# Altium integrated library Maxim Digital Potentiometers.IntLib: 1045 symbols (part 3 of 42)
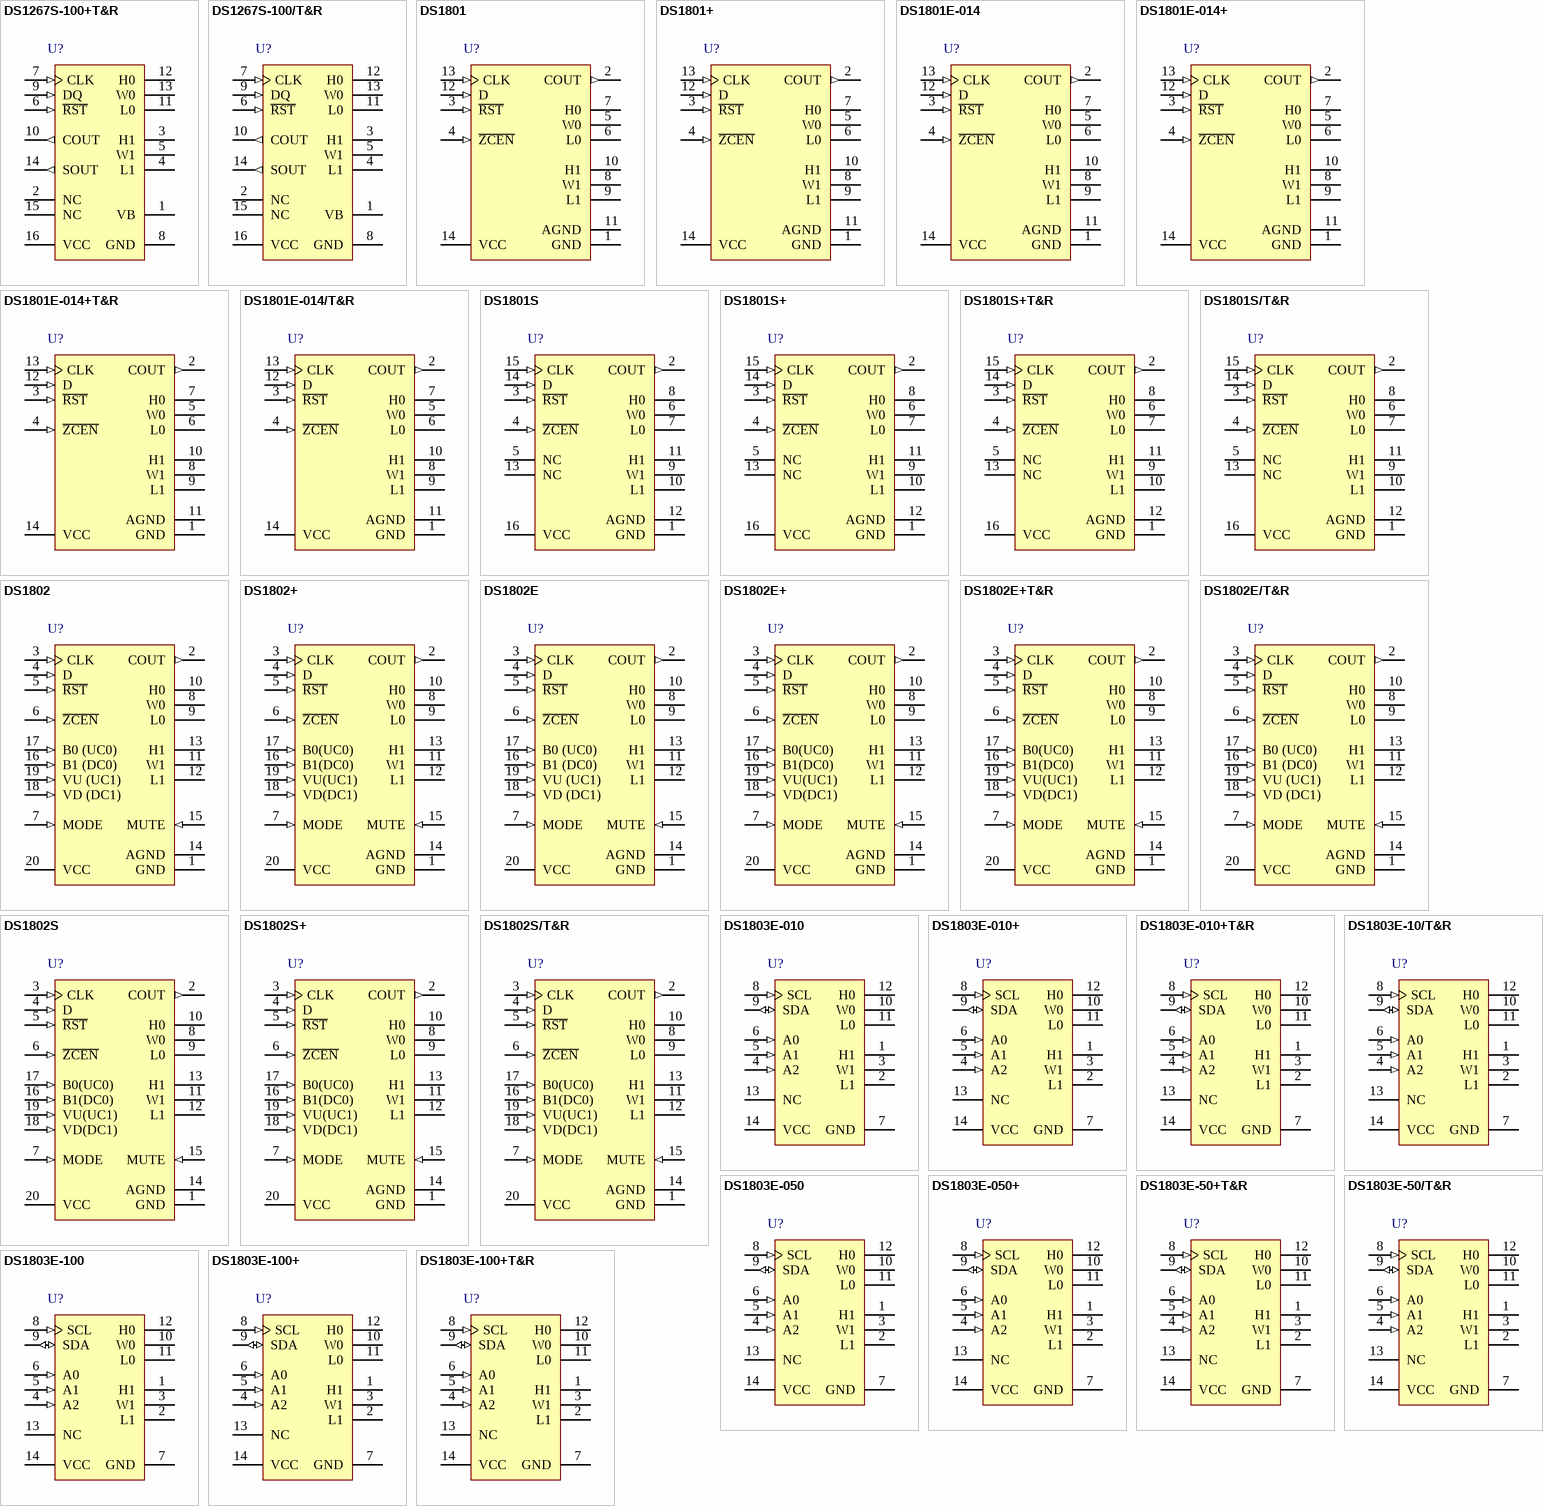
[diagram p31: symbols DS1267S-100+T&R to DS1803E-100+T&R]

## DS1803E-050+
designator U?
Dual Digital Potentiometer with 2-Wire Addressable Control Interface, Volatile, Linear Taper, 256 Steps, -40 to 85 degC, 14-pin TSSOP (U14+1), Pb-Free; PartNumber: DS1803E-050+; DatasheetVersion: Rev. 3; PackageVersion: Rev. L, 07/2010; PackageReference: U14+1; PackageDescription: 14-Pin Thin Shrink Small-Outline Package (U14+1), Body 5 x 4.4 mm, Pitch 0.65 mm; Supplier 1: Digi-Key; Supplier Part Number 1: DS1803E-050+-ND; Supplier 2: Mouser; Supplier Part Number 2: 700-DS1803E-050; Control Interface: 2-Wire Addressable; Mounting Technology: Surface Mount; Code_JEDEC: MO-153; ComponentLink1Description: Manufacturer URL; ComponentLink1URL: http://www.maximintegrated.com/; ComponentLink2Description: Datasheet; ComponentLink2URL: http://datasheets.maximintegrated.com/en/ds/DS1803.pdf; ComponentLink3Description: Package Specification; ComponentLink3URL: http://pdfserv.maximintegrated.com/package_dwgs/21-0066.PDF
footprint MAXM-U14+1_N (SOP, 14-Leads, Body 5x4.4mm, Pitch 0.65mm, IPC Medium Density)
footprint MAXM-U14+1_L (SOP, 14-Leads, Body 5x4.4mm, Pitch 0.65mm, IPC High Density)
footprint MAXM-U14+1_M (SOP, 14-Leads, Body 5x4.4mm, Pitch 0.65mm, IPC Low Density)
pins: 1 H1 "High End of Resistor", 2 L1 "Low End of Resistor", 3 W1 "Wiper terminal of Resistor", 4 A2 (in) "Chip Select Inputs", 5 A1 (in) "Chip Select Inputs", 6 A0 (in) "Chip Select Inputs", 7 GND (power) "Ground", 8 SCL (in) "Serial Clock Input", 9 SDA (io) "Serial Data I/O", 10 W0 "Wiper terminal of Resistor", 11 L0 "Low End of Resistor", 12 H0 "High End of Resistor", 13 NC "No Connection", 14 VCC (power) "3V/5V Power Supply Input"

## DS1803E-50+T&R
designator U?
Dual Digital Potentiometer with 2-Wire Addressable Control Interface, Volatile, Linear Taper, 256 Steps, -40 to 85 degC, 14-pin TSSOP (U14+1), Pb-Free, Tape and Reel; PartNumber: DS1803E-50+T&R; DatasheetVersion: Rev. 3; PackageVersion: Rev. L, 07/2010; PackageReference: U14+1; PackageDescription: 14-Pin Thin Shrink Small-Outline Package (U14+1), Body 5 x 4.4 mm, Pitch 0.65 mm; Supplier 1: Digi-Key; Supplier Part Number 1: DS1803E-50+T&R-ND; Supplier 2: Mouser; Supplier Part Number 2: 700-DS1803E-50T&R; Control Interface: 2-Wire Addressable; Mounting Technology: Surface Mount; Code_JEDEC: MO-153; ComponentLink1Description: Manufacturer URL; ComponentLink1URL: http://www.maximintegrated.com/; ComponentLink2Description: Datasheet; ComponentLink2URL: http://datasheets.maximintegrated.com/en/ds/DS1803.pdf; ComponentLink3Description: Package Specification; ComponentLink3URL: http://pdfserv.maximintegrated.com/package_dwgs/21-0066.PDF
footprint MAXM-U14+1_N (SOP, 14-Leads, Body 5x4.4mm, Pitch 0.65mm, IPC Medium Density)
footprint MAXM-U14+1_L (SOP, 14-Leads, Body 5x4.4mm, Pitch 0.65mm, IPC High Density)
footprint MAXM-U14+1_M (SOP, 14-Leads, Body 5x4.4mm, Pitch 0.65mm, IPC Low Density)
pins: 1 H1 "High End of Resistor", 2 L1 "Low End of Resistor", 3 W1 "Wiper terminal of Resistor", 4 A2 (in) "Chip Select Inputs", 5 A1 (in) "Chip Select Inputs", 6 A0 (in) "Chip Select Inputs", 7 GND (power) "Ground", 8 SCL (in) "Serial Clock Input", 9 SDA (io) "Serial Data I/O", 10 W0 "Wiper terminal of Resistor", 11 L0 "Low End of Resistor", 12 H0 "High End of Resistor", 13 NC "No Connection", 14 VCC (power) "3V/5V Power Supply Input"

## DS1803E-50/T&R
designator U?
Dual Digital Potentiometer with 2-Wire Addressable Control Interface, Volatile, Linear Taper, 256 Steps, -40 to 85 degC, 14-pin TSSOP (U14-1), Tape and Reel; PartNumber: DS1803E-50/T&R; DatasheetVersion: Rev. 3; PackageVersion: Rev. L, 07/2010; PackageReference: U14-1; PackageDescription: 14-Pin Thin Shrink Small-Outline Package (U14-1), Body 5 x 4.4 mm, Pitch 0.65 mm; Supplier 1: Digi-Key; Supplier Part Number 1: DS1803E-50/T&R-ND; Supplier 2: Mouser; Supplier Part Number 2: N/A; Control Interface: 2-Wire Addressable; Mounting Technology: Surface Mount; Code_JEDEC: MO-153; ComponentLink1Description: Manufacturer URL; ComponentLink1URL: http://www.maximintegrated.com/; ComponentLink2Description: Datasheet; ComponentLink2URL: http://datasheets.maximintegrated.com/en/ds/DS1803.pdf; ComponentLink3Description: Package Specification; ComponentLink3URL: http://pdfserv.maximintegrated.com/package_dwgs/21-0066.PDF
footprint MAXM-U14-1_N (SOP, 14-Leads, Body 5x4.4mm, Pitch 0.65mm, IPC Medium Density)
footprint MAXM-U14-1_L (SOP, 14-Leads, Body 5x4.4mm, Pitch 0.65mm, IPC High Density)
footprint MAXM-U14-1_M (SOP, 14-Leads, Body 5x4.4mm, Pitch 0.65mm, IPC Low Density)
pins: 1 H1 "High End of Resistor", 2 L1 "Low End of Resistor", 3 W1 "Wiper terminal of Resistor", 4 A2 (in) "Chip Select Inputs", 5 A1 (in) "Chip Select Inputs", 6 A0 (in) "Chip Select Inputs", 7 GND (power) "Ground", 8 SCL (in) "Serial Clock Input", 9 SDA (io) "Serial Data I/O", 10 W0 "Wiper terminal of Resistor", 11 L0 "Low End of Resistor", 12 H0 "High End of Resistor", 13 NC "No Connection", 14 VCC (power) "3V/5V Power Supply Input"

## DS1803E-100
designator U?
Dual Digital Potentiometer with 2-Wire Addressable Control Interface, Volatile, Linear Taper, 256 Steps, -40 to 85 degC, 14-pin TSSOP (U14-1); PartNumber: DS1803E-100; DatasheetVersion: Rev. 3; PackageVersion: Rev. L, 07/2010; PackageReference: U14-1; PackageDescription: 14-Pin Thin Shrink Small-Outline Package (U14-1), Body 5 x 4.4 mm, Pitch 0.65 mm; Supplier 1: Digi-Key; Supplier Part Number 1: DS1803E-100-ND; Supplier 2: Mouser; Supplier Part Number 2: N/A; Control Interface: 2-Wire Addressable; Mounting Technology: Surface Mount; Code_JEDEC: MO-153; ComponentLink1Description: Manufacturer URL; ComponentLink1URL: http://www.maximintegrated.com/; ComponentLink2Description: Datasheet; ComponentLink2URL: http://datasheets.maximintegrated.com/en/ds/DS1803.pdf; ComponentLink3Description: Package Specification; ComponentLink3URL: http://pdfserv.maximintegrated.com/package_dwgs/21-0066.PDF
footprint MAXM-U14-1_N (SOP, 14-Leads, Body 5x4.4mm, Pitch 0.65mm, IPC Medium Density)
footprint MAXM-U14-1_L (SOP, 14-Leads, Body 5x4.4mm, Pitch 0.65mm, IPC High Density)
footprint MAXM-U14-1_M (SOP, 14-Leads, Body 5x4.4mm, Pitch 0.65mm, IPC Low Density)
pins: 1 H1 "High End of Resistor", 2 L1 "Low End of Resistor", 3 W1 "Wiper terminal of Resistor", 4 A2 (in) "Chip Select Inputs", 5 A1 (in) "Chip Select Inputs", 6 A0 (in) "Chip Select Inputs", 7 GND (power) "Ground", 8 SCL (in) "Serial Clock Input", 9 SDA (io) "Serial Data I/O", 10 W0 "Wiper terminal of Resistor", 11 L0 "Low End of Resistor", 12 H0 "High End of Resistor", 13 NC "No Connection", 14 VCC (power) "3V/5V Power Supply Input"

## DS1803E-100+
designator U?
Dual Digital Potentiometer with 2-Wire Addressable Control Interface, Volatile, Linear Taper, 256 Steps, -40 to 85 degC, 14-pin TSSOP (U14+1), Pb-Free; PartNumber: DS1803E-100+; DatasheetVersion: Rev. 3; PackageVersion: Rev. L, 07/2010; PackageReference: U14+1; PackageDescription: 14-Pin Thin Shrink Small-Outline Package (U14+1), Body 5 x 4.4 mm, Pitch 0.65 mm; Supplier 1: Digi-Key; Supplier Part Number 1: DS1803E-100+-ND; Supplier 2: Mouser; Supplier Part Number 2: 700-DS1803E-100; Control Interface: 2-Wire Addressable; Mounting Technology: Surface Mount; Code_JEDEC: MO-153; ComponentLink1Description: Manufacturer URL; ComponentLink1URL: http://www.maximintegrated.com/; ComponentLink2Description: Datasheet; ComponentLink2URL: http://datasheets.maximintegrated.com/en/ds/DS1803.pdf; ComponentLink3Description: Package Specification; ComponentLink3URL: http://pdfserv.maximintegrated.com/package_dwgs/21-0066.PDF
footprint MAXM-U14+1_N (SOP, 14-Leads, Body 5x4.4mm, Pitch 0.65mm, IPC Medium Density)
footprint MAXM-U14+1_L (SOP, 14-Leads, Body 5x4.4mm, Pitch 0.65mm, IPC High Density)
footprint MAXM-U14+1_M (SOP, 14-Leads, Body 5x4.4mm, Pitch 0.65mm, IPC Low Density)
pins: 1 H1 "High End of Resistor", 2 L1 "Low End of Resistor", 3 W1 "Wiper terminal of Resistor", 4 A2 (in) "Chip Select Inputs", 5 A1 (in) "Chip Select Inputs", 6 A0 (in) "Chip Select Inputs", 7 GND (power) "Ground", 8 SCL (in) "Serial Clock Input", 9 SDA (io) "Serial Data I/O", 10 W0 "Wiper terminal of Resistor", 11 L0 "Low End of Resistor", 12 H0 "High End of Resistor", 13 NC "No Connection", 14 VCC (power) "3V/5V Power Supply Input"

## DS1803E-100+T&R
designator U?
Dual Digital Potentiometer with 2-Wire Addressable Control Interface, Volatile, Linear Taper, 256 Steps, -40 to 85 degC, 14-pin TSSOP (U14+1), Pb-Free, Tape and Reel; PartNumber: DS1803E-100+T&R; DatasheetVersion: Rev. 3; PackageVersion: Rev. L, 07/2010; PackageReference: U14+1; PackageDescription: 14-Pin Thin Shrink Small-Outline Package (U14+1), Body 5 x 4.4 mm, Pitch 0.65 mm; Supplier 1: Digi-Key; Supplier Part Number 1: DS1803E-100+T&R-ND; Supplier 2: Mouser; Supplier Part Number 2: 700-DS1803E-100T&R; Control Interface: 2-Wire Addressable; Mounting Technology: Surface Mount; Code_JEDEC: MO-153; ComponentLink1Description: Manufacturer URL; ComponentLink1URL: http://www.maximintegrated.com/; ComponentLink2Description: Datasheet; ComponentLink2URL: http://datasheets.maximintegrated.com/en/ds/DS1803.pdf; ComponentLink3Description: Package Specification; ComponentLink3URL: http://pdfserv.maximintegrated.com/package_dwgs/21-0066.PDF
footprint MAXM-U14+1_N (SOP, 14-Leads, Body 5x4.4mm, Pitch 0.65mm, IPC Medium Density)
footprint MAXM-U14+1_L (SOP, 14-Leads, Body 5x4.4mm, Pitch 0.65mm, IPC High Density)
footprint MAXM-U14+1_M (SOP, 14-Leads, Body 5x4.4mm, Pitch 0.65mm, IPC Low Density)
pins: 1 H1 "High End of Resistor", 2 L1 "Low End of Resistor", 3 W1 "Wiper terminal of Resistor", 4 A2 (in) "Chip Select Inputs", 5 A1 (in) "Chip Select Inputs", 6 A0 (in) "Chip Select Inputs", 7 GND (power) "Ground", 8 SCL (in) "Serial Clock Input", 9 SDA (io) "Serial Data I/O", 10 W0 "Wiper terminal of Resistor", 11 L0 "Low End of Resistor", 12 H0 "High End of Resistor", 13 NC "No Connection", 14 VCC (power) "3V/5V Power Supply Input"

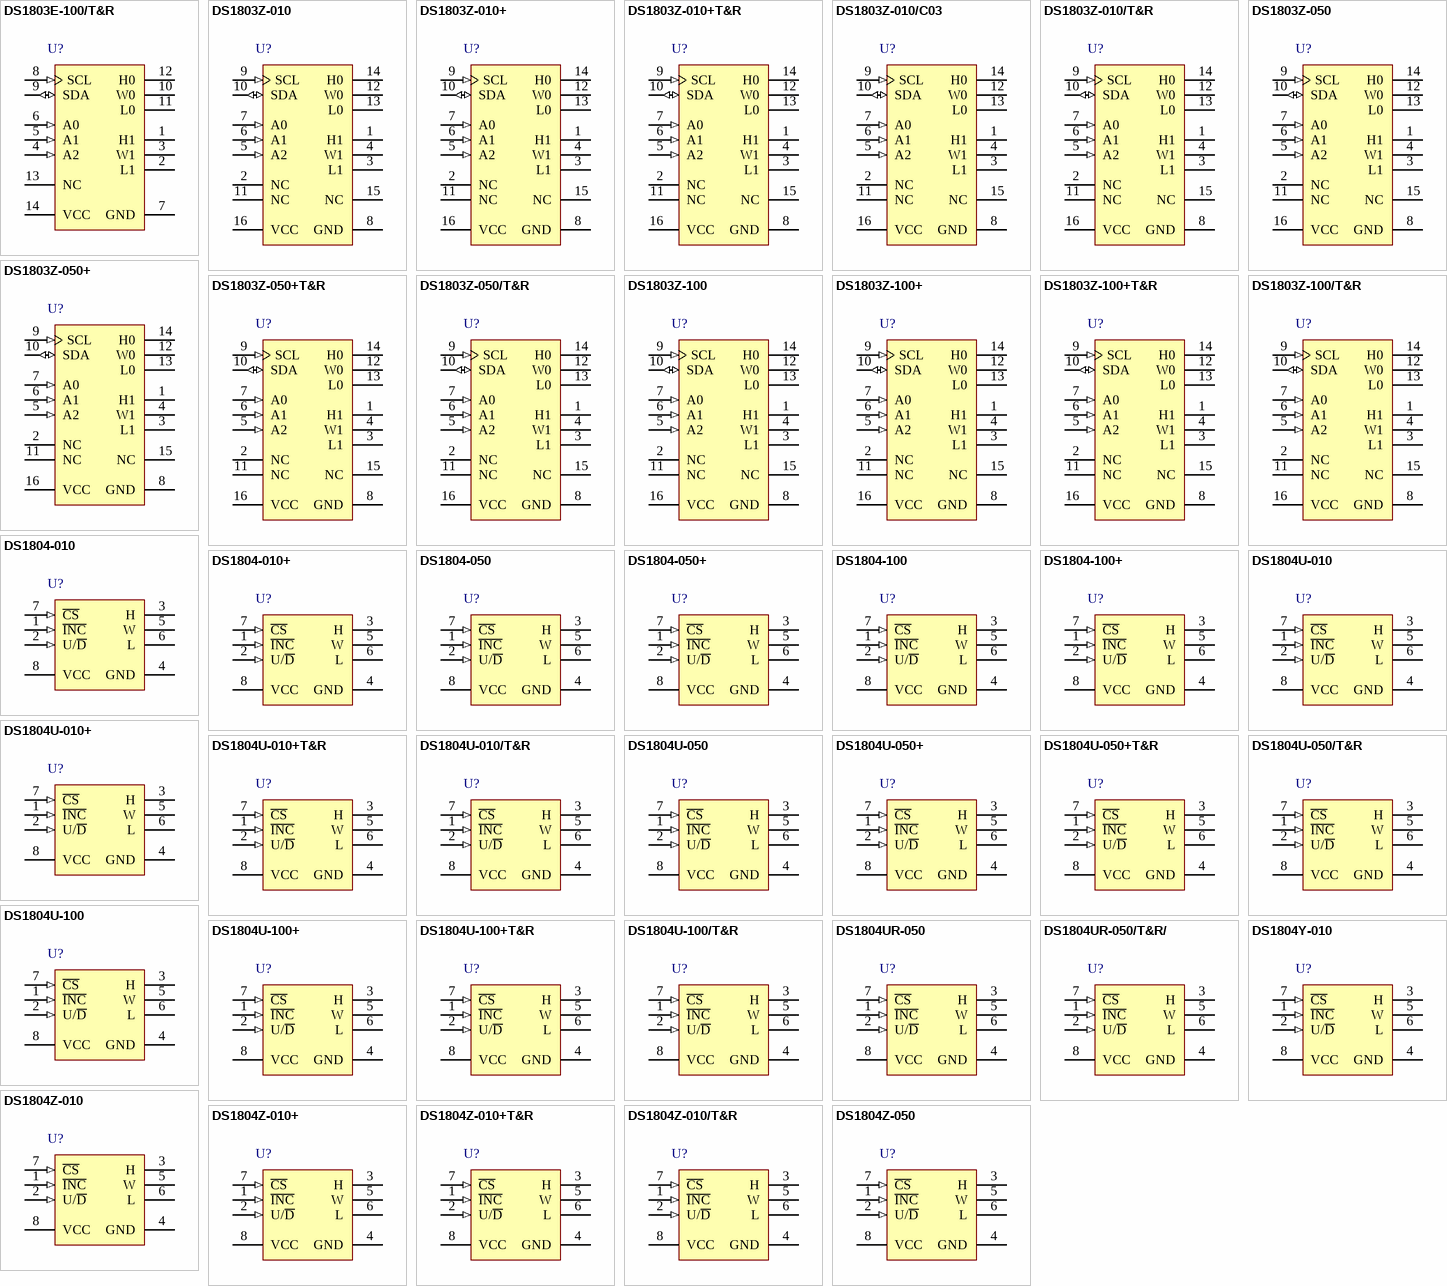
[diagram p2: symbols DS1803E-100/T&R to DS1804Z-050]

## DS1803E-100/T&R
designator U?
Dual Digital Potentiometer with 2-Wire Addressable Control Interface, Volatile, Linear Taper, 256 Steps, -40 to 85 degC, 14-pin TSSOP (U14-1), Tape and Reel; PartNumber: DS1803E-100/T&R; DatasheetVersion: Rev. 3; PackageVersion: Rev. L, 07/2010; PackageReference: U14-1; PackageDescription: 14-Pin Thin Shrink Small-Outline Package (U14-1), Body 5 x 4.4 mm, Pitch 0.65 mm; Supplier 1: Digi-Key; Supplier Part Number 1: DS1803E-100/T&R-ND; Supplier 2: Mouser; Supplier Part Number 2: N/A; Control Interface: 2-Wire Addressable; Mounting Technology: Surface Mount; Code_JEDEC: MO-153; ComponentLink1Description: Manufacturer URL; ComponentLink1URL: http://www.maximintegrated.com/; ComponentLink2Description: Datasheet; ComponentLink2URL: http://datasheets.maximintegrated.com/en/ds/DS1803.pdf; ComponentLink3Description: Package Specification; ComponentLink3URL: http://pdfserv.maximintegrated.com/package_dwgs/21-0066.PDF
footprint MAXM-U14-1_N (SOP, 14-Leads, Body 5x4.4mm, Pitch 0.65mm, IPC Medium Density)
footprint MAXM-U14-1_L (SOP, 14-Leads, Body 5x4.4mm, Pitch 0.65mm, IPC High Density)
footprint MAXM-U14-1_M (SOP, 14-Leads, Body 5x4.4mm, Pitch 0.65mm, IPC Low Density)
pins: 1 H1 "High End of Resistor", 2 L1 "Low End of Resistor", 3 W1 "Wiper terminal of Resistor", 4 A2 (in) "Chip Select Inputs", 5 A1 (in) "Chip Select Inputs", 6 A0 (in) "Chip Select Inputs", 7 GND (power) "Ground", 8 SCL (in) "Serial Clock Input", 9 SDA (io) "Serial Data I/O", 10 W0 "Wiper terminal of Resistor", 11 L0 "Low End of Resistor", 12 H0 "High End of Resistor", 13 NC "No Connection", 14 VCC (power) "3V/5V Power Supply Input"

## DS1803Z-010
designator U?
Dual Digital Potentiometer with 2-Wire Addressable Control Interface, Volatile, Linear Taper, 256 Steps, -40 to 85 degC, 16-pin SOIC (S16-1); PartNumber: DS1803Z-010; DatasheetVersion: Rev. 3; PackageVersion: Rev. D, 10/2012; PackageReference: S16-1; PackageDescription: 16-Pin Small-Outline IC, Narrow (0.15in) (S16-1), Body 9.9 x 3.9 mm, Pitch 1.27 mm; Supplier 1: Digi-Key; Supplier Part Number 1: DS1803Z-010-ND; Supplier 2: Mouser; Supplier Part Number 2: N/A; Control Interface: 2-Wire Addressable; Mounting Technology: Surface Mount; Code_JEDEC: MS012; ComponentLink1Description: Manufacturer URL; ComponentLink1URL: http://www.maximintegrated.com/; ComponentLink2Description: Datasheet; ComponentLink2URL: http://datasheets.maximintegrated.com/en/ds/DS1803.pdf; ComponentLink3Description: Package Specification; ComponentLink3URL: http://pdfserv.maximintegrated.com/package_dwgs/21-0041.PDF
footprint MAXM-S16-1_N (SOIC, 16-Leads, Body 9.9x3.9mm, Pitch 1.27mm, IPC Medium Density)
footprint MAXM-S16-1_L (SOIC, 16-Leads, Body 9.9x3.9mm, Pitch 1.27mm, IPC High Density)
footprint MAXM-S16-1_M (SOIC, 16-Leads, Body 9.9x3.9mm, Pitch 1.27mm, IPC Low Density)
pins: 1 H1 "High End of Resistor", 2 NC "No Connection", 3 L1 "Low End of Resistor", 4 W1 "Wiper terminal of Resistor", 5 A2 (in) "Chip Select Inputs", 6 A1 (in) "Chip Select Inputs", 7 A0 (in) "Chip Select Inputs", 8 GND (power) "Ground", 9 SCL (in) "Serial Clock Input", 10 SDA (io) "Serial Data I/O", 11 NC "No Connection", 12 W0 "Wiper terminal of Resistor", 13 L0 "Low End of Resistor", 14 H0 "High End of Resistor", 15 NC "No Connection", 16 VCC (power) "3V/5V Power Supply Input"

## DS1803Z-010+
designator U?
Dual Digital Potentiometer with 2-Wire Addressable Control Interface, Volatile, Linear Taper, 256 Steps, -40 to 85 degC, 16-pin SOIC (S16+1), Pb-Free; PartNumber: DS1803Z-010+; DatasheetVersion: Rev. 3; PackageVersion: Rev. D, 10/2012; PackageReference: S16+1; PackageDescription: 16-Pin Small-Outline IC, Narrow (0.15in) (S16-1), Body 9.9 x 3.9 mm, Pitch 1.27 mm; Supplier 1: Digi-Key; Supplier Part Number 1: DS1803Z-010+-ND; Supplier 2: Farnell; Supplier Part Number 2: 9725288; Supplier 3: Newark; Supplier Part Number 3: 10J9181; Supplier 4: Mouser; Supplier Part Number 4: 700-DS1803Z-010; Control Interface: 2-Wire Addressable; Mounting Technology: Surface Mount; Code_JEDEC: MS012; ComponentLink1Description: Manufacturer URL; ComponentLink1URL: http://www.maximintegrated.com/; ComponentLink2Description: Datasheet; ComponentLink2URL: http://datasheets.maximintegrated.com/en/ds/DS1803.pdf; ComponentLink3Description: Package Specification; ComponentLink3URL: http://pdfserv.maximintegrated.com/package_dwgs/21-0041.PDF
footprint MAXM-S16+1_N (SOIC, 16-Leads, Body 9.9x3.9mm, Pitch 1.27mm, IPC Medium Density)
footprint MAXM-S16+1_L (SOIC, 16-Leads, Body 9.9x3.9mm, Pitch 1.27mm, IPC High Density)
footprint MAXM-S16+1_M (SOIC, 16-Leads, Body 9.9x3.9mm, Pitch 1.27mm, IPC Low Density)
pins: 1 H1 "High End of Resistor", 2 NC "No Connection", 3 L1 "Low End of Resistor", 4 W1 "Wiper terminal of Resistor", 5 A2 (in) "Chip Select Inputs", 6 A1 (in) "Chip Select Inputs", 7 A0 (in) "Chip Select Inputs", 8 GND (power) "Ground", 9 SCL (in) "Serial Clock Input", 10 SDA (io) "Serial Data I/O", 11 NC "No Connection", 12 W0 "Wiper terminal of Resistor", 13 L0 "Low End of Resistor", 14 H0 "High End of Resistor", 15 NC "No Connection", 16 VCC (power) "3V/5V Power Supply Input"

## DS1803Z-010+T&R
designator U?
Dual Digital Potentiometer with 2-Wire Addressable Control Interface, Volatile, Linear Taper, 256 Steps, -40 to 85 degC, 16-pin SOIC (S16+1), Pb-Free, Tape and Reel; PartNumber: DS1803Z-010+T&R; DatasheetVersion: Rev. 3; PackageVersion: Rev. D, 10/2012; PackageReference: S16+1; PackageDescription: 16-Pin Small-Outline IC, Narrow (0.15in) (S16-1), Body 9.9 x 3.9 mm, Pitch 1.27 mm; Supplier 1: Digi-Key; Supplier Part Number 1: DS1803Z-010+T&R-ND; Supplier 2: Mouser; Supplier Part Number 2: 700-DS1803Z-010T&R; Control Interface: 2-Wire Addressable; Mounting Technology: Surface Mount; Code_JEDEC: MS012; ComponentLink1Description: Manufacturer URL; ComponentLink1URL: http://www.maximintegrated.com/; ComponentLink2Description: Datasheet; ComponentLink2URL: http://datasheets.maximintegrated.com/en/ds/DS1803.pdf; ComponentLink3Description: Package Specification; ComponentLink3URL: http://pdfserv.maximintegrated.com/package_dwgs/21-0041.PDF
footprint MAXM-S16+1_N (SOIC, 16-Leads, Body 9.9x3.9mm, Pitch 1.27mm, IPC Medium Density)
footprint MAXM-S16+1_L (SOIC, 16-Leads, Body 9.9x3.9mm, Pitch 1.27mm, IPC High Density)
footprint MAXM-S16+1_M (SOIC, 16-Leads, Body 9.9x3.9mm, Pitch 1.27mm, IPC Low Density)
pins: 1 H1 "High End of Resistor", 2 NC "No Connection", 3 L1 "Low End of Resistor", 4 W1 "Wiper terminal of Resistor", 5 A2 (in) "Chip Select Inputs", 6 A1 (in) "Chip Select Inputs", 7 A0 (in) "Chip Select Inputs", 8 GND (power) "Ground", 9 SCL (in) "Serial Clock Input", 10 SDA (io) "Serial Data I/O", 11 NC "No Connection", 12 W0 "Wiper terminal of Resistor", 13 L0 "Low End of Resistor", 14 H0 "High End of Resistor", 15 NC "No Connection", 16 VCC (power) "3V/5V Power Supply Input"

## DS1803Z-010/C03
designator U?
Dual Digital Potentiometer with 2-Wire Addressable Control Interface, Volatile, Linear Taper, 256 Steps, -40 to 85 degC, 16-pin SOIC (S16-1); PartNumber: DS1803Z-010/C03; DatasheetVersion: Rev. 3; PackageVersion: Rev. D, 10/2012; PackageReference: S16-1; PackageDescription: 16-Pin Small-Outline IC, Narrow (0.15in) (S16-1), Body 9.9 x 3.9 mm, Pitch 1.27 mm; Supplier 1: Mouser; Supplier Part Number 1: N/A; Control Interface: 2-Wire Addressable; Mounting Technology: Surface Mount; Code_JEDEC: MS012; ComponentLink1Description: Manufacturer URL; ComponentLink1URL: http://www.maximintegrated.com/; ComponentLink2Description: Datasheet; ComponentLink2URL: http://datasheets.maximintegrated.com/en/ds/DS1803.pdf; ComponentLink3Description: Package Specification; ComponentLink3URL: http://pdfserv.maximintegrated.com/package_dwgs/21-0041.PDF
footprint MAXM-S16-1_N (SOIC, 16-Leads, Body 9.9x3.9mm, Pitch 1.27mm, IPC Medium Density)
footprint MAXM-S16-1_L (SOIC, 16-Leads, Body 9.9x3.9mm, Pitch 1.27mm, IPC High Density)
footprint MAXM-S16-1_M (SOIC, 16-Leads, Body 9.9x3.9mm, Pitch 1.27mm, IPC Low Density)
pins: 1 H1 "High End of Resistor", 2 NC "No Connection", 3 L1 "Low End of Resistor", 4 W1 "Wiper terminal of Resistor", 5 A2 (in) "Chip Select Inputs", 6 A1 (in) "Chip Select Inputs", 7 A0 (in) "Chip Select Inputs", 8 GND (power) "Ground", 9 SCL (in) "Serial Clock Input", 10 SDA (io) "Serial Data I/O", 11 NC "No Connection", 12 W0 "Wiper terminal of Resistor", 13 L0 "Low End of Resistor", 14 H0 "High End of Resistor", 15 NC "No Connection", 16 VCC (power) "3V/5V Power Supply Input"

## DS1803Z-010/T&R
designator U?
Dual Digital Potentiometer with 2-Wire Addressable Control Interface, Volatile, Linear Taper, 256 Steps, -40 to 85 degC, 16-pin SOIC (S16-1), Tape and Reel; PartNumber: DS1803Z-010/T&R; DatasheetVersion: Rev. 3; PackageVersion: Rev. D, 10/2012; PackageReference: S16-1; PackageDescription: 16-Pin Small-Outline IC, Narrow (0.15in) (S16-1), Body 9.9 x 3.9 mm, Pitch 1.27 mm; Supplier 1: Digi-Key; Supplier Part Number 1: DS1803Z-010/T&R-ND; Supplier 2: Mouser; Supplier Part Number 2: N/A; Control Interface: 2-Wire Addressable; Mounting Technology: Surface Mount; Code_JEDEC: MS012; ComponentLink1Description: Manufacturer URL; ComponentLink1URL: http://www.maximintegrated.com/; ComponentLink2Description: Datasheet; ComponentLink2URL: http://datasheets.maximintegrated.com/en/ds/DS1803.pdf; ComponentLink3Description: Package Specification; ComponentLink3URL: http://pdfserv.maximintegrated.com/package_dwgs/21-0041.PDF
footprint MAXM-S16-1_N (SOIC, 16-Leads, Body 9.9x3.9mm, Pitch 1.27mm, IPC Medium Density)
footprint MAXM-S16-1_L (SOIC, 16-Leads, Body 9.9x3.9mm, Pitch 1.27mm, IPC High Density)
footprint MAXM-S16-1_M (SOIC, 16-Leads, Body 9.9x3.9mm, Pitch 1.27mm, IPC Low Density)
pins: 1 H1 "High End of Resistor", 2 NC "No Connection", 3 L1 "Low End of Resistor", 4 W1 "Wiper terminal of Resistor", 5 A2 (in) "Chip Select Inputs", 6 A1 (in) "Chip Select Inputs", 7 A0 (in) "Chip Select Inputs", 8 GND (power) "Ground", 9 SCL (in) "Serial Clock Input", 10 SDA (io) "Serial Data I/O", 11 NC "No Connection", 12 W0 "Wiper terminal of Resistor", 13 L0 "Low End of Resistor", 14 H0 "High End of Resistor", 15 NC "No Connection", 16 VCC (power) "3V/5V Power Supply Input"

## DS1803Z-050
designator U?
Dual Digital Potentiometer with 2-Wire Addressable Control Interface, Volatile, Linear Taper, 256 Steps, -40 to 85 degC, 16-pin SOIC (S16-1); PartNumber: DS1803Z-050; DatasheetVersion: Rev. 3; PackageVersion: Rev. D, 10/2012; PackageReference: S16-1; PackageDescription: 16-Pin Small-Outline IC, Narrow (0.15in) (S16-1), Body 9.9 x 3.9 mm, Pitch 1.27 mm; Supplier 1: Digi-Key; Supplier Part Number 1: DS1803Z-050-ND; Supplier 2: Mouser; Supplier Part Number 2: N/A; Control Interface: 2-Wire Addressable; Mounting Technology: Surface Mount; Code_JEDEC: MS012; ComponentLink1Description: Manufacturer URL; ComponentLink1URL: http://www.maximintegrated.com/; ComponentLink2Description: Datasheet; ComponentLink2URL: http://datasheets.maximintegrated.com/en/ds/DS1803.pdf; ComponentLink3Description: Package Specification; ComponentLink3URL: http://pdfserv.maximintegrated.com/package_dwgs/21-0041.PDF
footprint MAXM-S16-1_N (SOIC, 16-Leads, Body 9.9x3.9mm, Pitch 1.27mm, IPC Medium Density)
footprint MAXM-S16-1_L (SOIC, 16-Leads, Body 9.9x3.9mm, Pitch 1.27mm, IPC High Density)
footprint MAXM-S16-1_M (SOIC, 16-Leads, Body 9.9x3.9mm, Pitch 1.27mm, IPC Low Density)
pins: 1 H1 "High End of Resistor", 2 NC "No Connection", 3 L1 "Low End of Resistor", 4 W1 "Wiper terminal of Resistor", 5 A2 (in) "Chip Select Inputs", 6 A1 (in) "Chip Select Inputs", 7 A0 (in) "Chip Select Inputs", 8 GND (power) "Ground", 9 SCL (in) "Serial Clock Input", 10 SDA (io) "Serial Data I/O", 11 NC "No Connection", 12 W0 "Wiper terminal of Resistor", 13 L0 "Low End of Resistor", 14 H0 "High End of Resistor", 15 NC "No Connection", 16 VCC (power) "3V/5V Power Supply Input"

## DS1803Z-050+
designator U?
Dual Digital Potentiometer with 2-Wire Addressable Control Interface, Volatile, Linear Taper, 256 Steps, -40 to 85 degC, 16-pin SOIC (S16+1), Pb-Free; PartNumber: DS1803Z-050+; DatasheetVersion: Rev. 3; PackageVersion: Rev. D, 10/2012; PackageReference: S16+1; PackageDescription: 16-Pin Small-Outline IC, Narrow (0.15in) (S16-1), Body 9.9 x 3.9 mm, Pitch 1.27 mm; Supplier 1: Digi-Key; Supplier Part Number 1: DS1803Z-050+-ND; Supplier 2: Mouser; Supplier Part Number 2: 700-DS1803Z-050; Control Interface: 2-Wire Addressable; Mounting Technology: Surface Mount; Code_JEDEC: MS012; ComponentLink1Description: Manufacturer URL; ComponentLink1URL: http://www.maximintegrated.com/; ComponentLink2Description: Datasheet; ComponentLink2URL: http://datasheets.maximintegrated.com/en/ds/DS1803.pdf; ComponentLink3Description: Package Specification; ComponentLink3URL: http://pdfserv.maximintegrated.com/package_dwgs/21-0041.PDF
footprint MAXM-S16+1_N (SOIC, 16-Leads, Body 9.9x3.9mm, Pitch 1.27mm, IPC Medium Density)
footprint MAXM-S16+1_L (SOIC, 16-Leads, Body 9.9x3.9mm, Pitch 1.27mm, IPC High Density)
footprint MAXM-S16+1_M (SOIC, 16-Leads, Body 9.9x3.9mm, Pitch 1.27mm, IPC Low Density)
pins: 1 H1 "High End of Resistor", 2 NC "No Connection", 3 L1 "Low End of Resistor", 4 W1 "Wiper terminal of Resistor", 5 A2 (in) "Chip Select Inputs", 6 A1 (in) "Chip Select Inputs", 7 A0 (in) "Chip Select Inputs", 8 GND (power) "Ground", 9 SCL (in) "Serial Clock Input", 10 SDA (io) "Serial Data I/O", 11 NC "No Connection", 12 W0 "Wiper terminal of Resistor", 13 L0 "Low End of Resistor", 14 H0 "High End of Resistor", 15 NC "No Connection", 16 VCC (power) "3V/5V Power Supply Input"

## DS1803Z-050+T&R
designator U?
Dual Digital Potentiometer with 2-Wire Addressable Control Interface, Volatile, Linear Taper, 256 Steps, -40 to 85 degC, 16-pin SOIC (S16+1), Pb-Free, Tape and Reel; PartNumber: DS1803Z-050+T&R; DatasheetVersion: Rev. 3; PackageVersion: Rev. D, 10/2012; PackageReference: S16+1; PackageDescription: 16-Pin Small-Outline IC, Narrow (0.15in) (S16-1), Body 9.9 x 3.9 mm, Pitch 1.27 mm; Supplier 1: Digi-Key; Supplier Part Number 1: DS1803Z-050+T&R-ND; Supplier 2: Mouser; Supplier Part Number 2: 700-DS1803Z-050T&R; Control Interface: 2-Wire Addressable; Mounting Technology: Surface Mount; Code_JEDEC: MS012; ComponentLink1Description: Manufacturer URL; ComponentLink1URL: http://www.maximintegrated.com/; ComponentLink2Description: Datasheet; ComponentLink2URL: http://datasheets.maximintegrated.com/en/ds/DS1803.pdf; ComponentLink3Description: Package Specification; ComponentLink3URL: http://pdfserv.maximintegrated.com/package_dwgs/21-0041.PDF
footprint MAXM-S16+1_N (SOIC, 16-Leads, Body 9.9x3.9mm, Pitch 1.27mm, IPC Medium Density)
footprint MAXM-S16+1_L (SOIC, 16-Leads, Body 9.9x3.9mm, Pitch 1.27mm, IPC High Density)
footprint MAXM-S16+1_M (SOIC, 16-Leads, Body 9.9x3.9mm, Pitch 1.27mm, IPC Low Density)
pins: 1 H1 "High End of Resistor", 2 NC "No Connection", 3 L1 "Low End of Resistor", 4 W1 "Wiper terminal of Resistor", 5 A2 (in) "Chip Select Inputs", 6 A1 (in) "Chip Select Inputs", 7 A0 (in) "Chip Select Inputs", 8 GND (power) "Ground", 9 SCL (in) "Serial Clock Input", 10 SDA (io) "Serial Data I/O", 11 NC "No Connection", 12 W0 "Wiper terminal of Resistor", 13 L0 "Low End of Resistor", 14 H0 "High End of Resistor", 15 NC "No Connection", 16 VCC (power) "3V/5V Power Supply Input"

## DS1803Z-050/T&R
designator U?
Dual Digital Potentiometer with 2-Wire Addressable Control Interface, Volatile, Linear Taper, 256 Steps, -40 to 85 degC, 16-pin SOIC (S16-1), Tape and Reel; PartNumber: DS1803Z-050/T&R; DatasheetVersion: Rev. 3; PackageVersion: Rev. D, 10/2012; PackageReference: S16-1; PackageDescription: 16-Pin Small-Outline IC, Narrow (0.15in) (S16-1), Body 9.9 x 3.9 mm, Pitch 1.27 mm; Supplier 1: Digi-Key; Supplier Part Number 1: DS1803Z-050/T&R-ND; Supplier 2: Mouser; Supplier Part Number 2: N/A; Control Interface: 2-Wire Addressable; Mounting Technology: Surface Mount; Code_JEDEC: MS012; ComponentLink1Description: Manufacturer URL; ComponentLink1URL: http://www.maximintegrated.com/; ComponentLink2Description: Datasheet; ComponentLink2URL: http://datasheets.maximintegrated.com/en/ds/DS1803.pdf; ComponentLink3Description: Package Specification; ComponentLink3URL: http://pdfserv.maximintegrated.com/package_dwgs/21-0041.PDF
footprint MAXM-S16-1_N (SOIC, 16-Leads, Body 9.9x3.9mm, Pitch 1.27mm, IPC Medium Density)
footprint MAXM-S16-1_L (SOIC, 16-Leads, Body 9.9x3.9mm, Pitch 1.27mm, IPC High Density)
footprint MAXM-S16-1_M (SOIC, 16-Leads, Body 9.9x3.9mm, Pitch 1.27mm, IPC Low Density)
pins: 1 H1 "High End of Resistor", 2 NC "No Connection", 3 L1 "Low End of Resistor", 4 W1 "Wiper terminal of Resistor", 5 A2 (in) "Chip Select Inputs", 6 A1 (in) "Chip Select Inputs", 7 A0 (in) "Chip Select Inputs", 8 GND (power) "Ground", 9 SCL (in) "Serial Clock Input", 10 SDA (io) "Serial Data I/O", 11 NC "No Connection", 12 W0 "Wiper terminal of Resistor", 13 L0 "Low End of Resistor", 14 H0 "High End of Resistor", 15 NC "No Connection", 16 VCC (power) "3V/5V Power Supply Input"

## DS1803Z-100
designator U?
Dual Digital Potentiometer with 2-Wire Addressable Control Interface, Volatile, Linear Taper, 256 Steps, -40 to 85 degC, 16-pin SOIC (S16-1); PartNumber: DS1803Z-100; DatasheetVersion: Rev. 3; PackageVersion: Rev. D, 10/2012; PackageReference: S16-1; PackageDescription: 16-Pin Small-Outline IC, Narrow (0.15in) (S16-1), Body 9.9 x 3.9 mm, Pitch 1.27 mm; Supplier 1: Digi-Key; Supplier Part Number 1: DS1803Z-100-ND; Supplier 2: Mouser; Supplier Part Number 2: N/A; Control Interface: 2-Wire Addressable; Mounting Technology: Surface Mount; Code_JEDEC: MS012; ComponentLink1Description: Manufacturer URL; ComponentLink1URL: http://www.maximintegrated.com/; ComponentLink2Description: Datasheet; ComponentLink2URL: http://datasheets.maximintegrated.com/en/ds/DS1803.pdf; ComponentLink3Description: Package Specification; ComponentLink3URL: http://pdfserv.maximintegrated.com/package_dwgs/21-0041.PDF
footprint MAXM-S16-1_N (SOIC, 16-Leads, Body 9.9x3.9mm, Pitch 1.27mm, IPC Medium Density)
footprint MAXM-S16-1_L (SOIC, 16-Leads, Body 9.9x3.9mm, Pitch 1.27mm, IPC High Density)
footprint MAXM-S16-1_M (SOIC, 16-Leads, Body 9.9x3.9mm, Pitch 1.27mm, IPC Low Density)
pins: 1 H1 "High End of Resistor", 2 NC "No Connection", 3 L1 "Low End of Resistor", 4 W1 "Wiper terminal of Resistor", 5 A2 (in) "Chip Select Inputs", 6 A1 (in) "Chip Select Inputs", 7 A0 (in) "Chip Select Inputs", 8 GND (power) "Ground", 9 SCL (in) "Serial Clock Input", 10 SDA (io) "Serial Data I/O", 11 NC "No Connection", 12 W0 "Wiper terminal of Resistor", 13 L0 "Low End of Resistor", 14 H0 "High End of Resistor", 15 NC "No Connection", 16 VCC (power) "3V/5V Power Supply Input"

## DS1803Z-100+
designator U?
Dual Digital Potentiometer with 2-Wire Addressable Control Interface, Volatile, Linear Taper, 256 Steps, -40 to 85 degC, 16-pin SOIC (S16+1), Pb-Free; PartNumber: DS1803Z-100+; DatasheetVersion: Rev. 3; PackageVersion: Rev. D, 10/2012; PackageReference: S16+1; PackageDescription: 16-Pin Small-Outline IC, Narrow (0.15in) (S16-1), Body 9.9 x 3.9 mm, Pitch 1.27 mm; Supplier 1: Digi-Key; Supplier Part Number 1: DS1803Z-100+-ND; Supplier 2: Mouser; Supplier Part Number 2: 700-DS1803Z-100; Control Interface: 2-Wire Addressable; Mounting Technology: Surface Mount; Code_JEDEC: MS012; ComponentLink1Description: Manufacturer URL; ComponentLink1URL: http://www.maximintegrated.com/; ComponentLink2Description: Datasheet; ComponentLink2URL: http://datasheets.maximintegrated.com/en/ds/DS1803.pdf; ComponentLink3Description: Package Specification; ComponentLink3URL: http://pdfserv.maximintegrated.com/package_dwgs/21-0041.PDF
footprint MAXM-S16+1_N (SOIC, 16-Leads, Body 9.9x3.9mm, Pitch 1.27mm, IPC Medium Density)
footprint MAXM-S16+1_L (SOIC, 16-Leads, Body 9.9x3.9mm, Pitch 1.27mm, IPC High Density)
footprint MAXM-S16+1_M (SOIC, 16-Leads, Body 9.9x3.9mm, Pitch 1.27mm, IPC Low Density)
pins: 1 H1 "High End of Resistor", 2 NC "No Connection", 3 L1 "Low End of Resistor", 4 W1 "Wiper terminal of Resistor", 5 A2 (in) "Chip Select Inputs", 6 A1 (in) "Chip Select Inputs", 7 A0 (in) "Chip Select Inputs", 8 GND (power) "Ground", 9 SCL (in) "Serial Clock Input", 10 SDA (io) "Serial Data I/O", 11 NC "No Connection", 12 W0 "Wiper terminal of Resistor", 13 L0 "Low End of Resistor", 14 H0 "High End of Resistor", 15 NC "No Connection", 16 VCC (power) "3V/5V Power Supply Input"

## DS1803Z-100+T&R
designator U?
Dual Digital Potentiometer with 2-Wire Addressable Control Interface, Volatile, Linear Taper, 256 Steps, -40 to 85 degC, 16-pin SOIC (S16+1), Pb-Free, Tape and Reel; PartNumber: DS1803Z-100+T&R; DatasheetVersion: Rev. 3; PackageVersion: Rev. D, 10/2012; PackageReference: S16+1; PackageDescription: 16-Pin Small-Outline IC, Narrow (0.15in) (S16-1), Body 9.9 x 3.9 mm, Pitch 1.27 mm; Supplier 1: Digi-Key; Supplier Part Number 1: DS1803Z-100+T&R-ND; Supplier 2: Mouser; Supplier Part Number 2: 700-DS1803Z-100T&R; Control Interface: 2-Wire Addressable; Mounting Technology: Surface Mount; Code_JEDEC: MS012; ComponentLink1Description: Manufacturer URL; ComponentLink1URL: http://www.maximintegrated.com/; ComponentLink2Description: Datasheet; ComponentLink2URL: http://datasheets.maximintegrated.com/en/ds/DS1803.pdf; ComponentLink3Description: Package Specification; ComponentLink3URL: http://pdfserv.maximintegrated.com/package_dwgs/21-0041.PDF
footprint MAXM-S16+1_N (SOIC, 16-Leads, Body 9.9x3.9mm, Pitch 1.27mm, IPC Medium Density)
footprint MAXM-S16+1_L (SOIC, 16-Leads, Body 9.9x3.9mm, Pitch 1.27mm, IPC High Density)
footprint MAXM-S16+1_M (SOIC, 16-Leads, Body 9.9x3.9mm, Pitch 1.27mm, IPC Low Density)
pins: 1 H1 "High End of Resistor", 2 NC "No Connection", 3 L1 "Low End of Resistor", 4 W1 "Wiper terminal of Resistor", 5 A2 (in) "Chip Select Inputs", 6 A1 (in) "Chip Select Inputs", 7 A0 (in) "Chip Select Inputs", 8 GND (power) "Ground", 9 SCL (in) "Serial Clock Input", 10 SDA (io) "Serial Data I/O", 11 NC "No Connection", 12 W0 "Wiper terminal of Resistor", 13 L0 "Low End of Resistor", 14 H0 "High End of Resistor", 15 NC "No Connection", 16 VCC (power) "3V/5V Power Supply Input"

## DS1803Z-100/T&R
designator U?
Dual Digital Potentiometer with 2-Wire Addressable Control Interface, Volatile, Linear Taper, 256 Steps, -40 to 85 degC, 16-pin SOIC (S16-1), Tape and Reel; PartNumber: DS1803Z-100/T&R; DatasheetVersion: Rev. 3; PackageVersion: Rev. D, 10/2012; PackageReference: S16-1; PackageDescription: 16-Pin Small-Outline IC, Narrow (0.15in) (S16-1), Body 9.9 x 3.9 mm, Pitch 1.27 mm; Supplier 1: Mouser; Supplier Part Number 1: N/A; Control Interface: 2-Wire Addressable; Mounting Technology: Surface Mount; Code_JEDEC: MS012; ComponentLink1Description: Manufacturer URL; ComponentLink1URL: http://www.maximintegrated.com/; ComponentLink2Description: Datasheet; ComponentLink2URL: http://datasheets.maximintegrated.com/en/ds/DS1803.pdf; ComponentLink3Description: Package Specification; ComponentLink3URL: http://pdfserv.maximintegrated.com/package_dwgs/21-0041.PDF
footprint MAXM-S16-1_N (SOIC, 16-Leads, Body 9.9x3.9mm, Pitch 1.27mm, IPC Medium Density)
footprint MAXM-S16-1_L (SOIC, 16-Leads, Body 9.9x3.9mm, Pitch 1.27mm, IPC High Density)
footprint MAXM-S16-1_M (SOIC, 16-Leads, Body 9.9x3.9mm, Pitch 1.27mm, IPC Low Density)
pins: 1 H1 "High End of Resistor", 2 NC "No Connection", 3 L1 "Low End of Resistor", 4 W1 "Wiper terminal of Resistor", 5 A2 (in) "Chip Select Inputs", 6 A1 (in) "Chip Select Inputs", 7 A0 (in) "Chip Select Inputs", 8 GND (power) "Ground", 9 SCL (in) "Serial Clock Input", 10 SDA (io) "Serial Data I/O", 11 NC "No Connection", 12 W0 "Wiper terminal of Resistor", 13 L0 "Low End of Resistor", 14 H0 "High End of Resistor", 15 NC "No Connection", 16 VCC (power) "3V/5V Power Supply Input"

## DS1804-010
designator U?
NV Trimmer Potentiometer with Up/Down Control Interface, Non-Volatile, Linear Taper, 100 Steps, -40 to 85 degC, 8-pin PDIP (P8-2); PartNumber: DS1804-010; DatasheetVersion: Rev. 6; PackageVersion: Rev. E, 04/2011; PackageReference: P8-2; PackageDescription: 8-Pin Plastic Dual-In-Line, Narrow (0.3in) (P8-2), Body 9.375 x 6.985 mm, Pitch 2.54 mm; Supplier 1: Digi-Key; Supplier Part Number 1: DS1804-010-ND; Supplier 2: Mouser; Supplier Part Number 2: N/A; Control Interface: Up/Down; Features: EEPROM Wiper Memory; Mounting Technology: Through Hole; Code_JEDEC: MS001-XX; ComponentLink1Description: Manufacturer URL; ComponentLink1URL: http://www.maximintegrated.com/; ComponentLink2Description: Datasheet; ComponentLink2URL: http://datasheets.maximintegrated.com/en/ds/DS1804.pdf; ComponentLink3Description: Package Specification; ComponentLink3URL: http://pdfserv.maximintegrated.com/package_dwgs/21-0043.PDF
footprint MAXM-P8-2 (DIP, 8-Leads, Body 9.375x6.985mm, Pitch 2.54mm)
pins: 1 ~{INC} (in) "Increment/Decrement Wiper Control", 2 U/~{D} (in) "Up/Down Control", 3 H "High-Terminal of Potentiometer", 4 GND (power) "Ground", 5 W "Wiper of Potentiometer", 6 L "Low-Terminal of Potentiometer", 7 ~{CS} (in) "Chip Select", 8 VCC (power) "3V or 5V Power Supply"

## DS1804-010+
designator U?
NV Trimmer Potentiometer with Up/Down Control Interface, Non-Volatile, Linear Taper, 100 Steps, -40 to 85 degC, 8-pin PDIP (P8+2), Pb-Free; PartNumber: DS1804-010+; DatasheetVersion: Rev. 6; PackageVersion: Rev. E, 04/2011; PackageReference: P8+2; PackageDescription: 8-Pin Plastic Dual-In-Line, Narrow (0.3in) (P8+2), Body 9.375 x 6.985 mm, Pitch 2.54 mm; Supplier 1: Digi-Key; Supplier Part Number 1: DS1804-010+-ND; Supplier 2: Farnell; Supplier Part Number 2: 1285408; Supplier 3: Newark; Supplier Part Number 3: 26R5801; Supplier 4: Mouser; Supplier Part Number 4: 700-DS1804-010; Control Interface: Up/Down; Features: EEPROM Wiper Memory; Mounting Technology: Through Hole; Code_JEDEC: MS001-XX; ComponentLink1Description: Manufacturer URL; ComponentLink1URL: http://www.maximintegrated.com/; ComponentLink2Description: Datasheet; ComponentLink2URL: http://datasheets.maximintegrated.com/en/ds/DS1804.pdf; ComponentLink3Description: Package Specification; ComponentLink3URL: http://pdfserv.maximintegrated.com/package_dwgs/21-0043.PDF
footprint MAXM-P8+2 (DIP, 8-Leads, Body 9.375x6.985mm, Pitch 2.54mm)
pins: 1 ~{INC} (in) "Increment/Decrement Wiper Control", 2 U/~{D} (in) "Up/Down Control", 3 H "High-Terminal of Potentiometer", 4 GND (power) "Ground", 5 W "Wiper of Potentiometer", 6 L "Low-Terminal of Potentiometer", 7 ~{CS} (in) "Chip Select", 8 VCC (power) "3V or 5V Power Supply"

## DS1804-050
designator U?
NV Trimmer Potentiometer with Up/Down Control Interface, Non-Volatile, Linear Taper, 100 Steps, -40 to 85 degC, 8-pin PDIP (P8-2); PartNumber: DS1804-050; DatasheetVersion: Rev. 6; PackageVersion: Rev. E, 04/2011; PackageReference: P8-2; PackageDescription: 8-Pin Plastic Dual-In-Line, Narrow (0.3in) (P8-2), Body 9.375 x 6.985 mm, Pitch 2.54 mm; Supplier 1: Digi-Key; Supplier Part Number 1: DS1804-050-ND; Supplier 2: Mouser; Supplier Part Number 2: N/A; Control Interface: Up/Down; Features: EEPROM Wiper Memory; Mounting Technology: Through Hole; Code_JEDEC: MS001-XX; ComponentLink1Description: Manufacturer URL; ComponentLink1URL: http://www.maximintegrated.com/; ComponentLink2Description: Datasheet; ComponentLink2URL: http://datasheets.maximintegrated.com/en/ds/DS1804.pdf; ComponentLink3Description: Package Specification; ComponentLink3URL: http://pdfserv.maximintegrated.com/package_dwgs/21-0043.PDF
footprint MAXM-P8-2 (DIP, 8-Leads, Body 9.375x6.985mm, Pitch 2.54mm)
pins: 1 ~{INC} (in) "Increment/Decrement Wiper Control", 2 U/~{D} (in) "Up/Down Control", 3 H "High-Terminal of Potentiometer", 4 GND (power) "Ground", 5 W "Wiper of Potentiometer", 6 L "Low-Terminal of Potentiometer", 7 ~{CS} (in) "Chip Select", 8 VCC (power) "3V or 5V Power Supply"

## DS1804-050+
designator U?
NV Trimmer Potentiometer with Up/Down Control Interface, Non-Volatile, Linear Taper, 100 Steps, -40 to 85 degC, 8-pin PDIP (P8+2), Pb-Free; PartNumber: DS1804-050+; DatasheetVersion: Rev. 6; PackageVersion: Rev. E, 04/2011; PackageReference: P8+2; PackageDescription: 8-Pin Plastic Dual-In-Line, Narrow (0.3in) (P8+2), Body 9.375 x 6.985 mm, Pitch 2.54 mm; Supplier 1: Digi-Key; Supplier Part Number 1: DS1804-050+-ND; Supplier 2: Mouser; Supplier Part Number 2: 700-DS1804-050; Control Interface: Up/Down; Features: EEPROM Wiper Memory; Mounting Technology: Through Hole; Code_JEDEC: MS001-XX; ComponentLink1Description: Manufacturer URL; ComponentLink1URL: http://www.maximintegrated.com/; ComponentLink2Description: Datasheet; ComponentLink2URL: http://datasheets.maximintegrated.com/en/ds/DS1804.pdf; ComponentLink3Description: Package Specification; ComponentLink3URL: http://pdfserv.maximintegrated.com/package_dwgs/21-0043.PDF
footprint MAXM-P8+2 (DIP, 8-Leads, Body 9.375x6.985mm, Pitch 2.54mm)
pins: 1 ~{INC} (in) "Increment/Decrement Wiper Control", 2 U/~{D} (in) "Up/Down Control", 3 H "High-Terminal of Potentiometer", 4 GND (power) "Ground", 5 W "Wiper of Potentiometer", 6 L "Low-Terminal of Potentiometer", 7 ~{CS} (in) "Chip Select", 8 VCC (power) "3V or 5V Power Supply"

## DS1804-100
designator U?
NV Trimmer Potentiometer with Up/Down Control Interface, Non-Volatile, Linear Taper, 100 Steps, -40 to 85 degC, 8-pin PDIP (P8-2); PartNumber: DS1804-100; DatasheetVersion: Rev. 6; PackageVersion: Rev. E, 04/2011; PackageReference: P8-2; PackageDescription: 8-Pin Plastic Dual-In-Line, Narrow (0.3in) (P8-2), Body 9.375 x 6.985 mm, Pitch 2.54 mm; Supplier 1: Digi-Key; Supplier Part Number 1: DS1804-100-ND; Supplier 2: Mouser; Supplier Part Number 2: N/A; Control Interface: Up/Down; Features: EEPROM Wiper Memory; Mounting Technology: Through Hole; Code_JEDEC: MS001-XX; ComponentLink1Description: Manufacturer URL; ComponentLink1URL: http://www.maximintegrated.com/; ComponentLink2Description: Datasheet; ComponentLink2URL: http://datasheets.maximintegrated.com/en/ds/DS1804.pdf; ComponentLink3Description: Package Specification; ComponentLink3URL: http://pdfserv.maximintegrated.com/package_dwgs/21-0043.PDF
footprint MAXM-P8-2 (DIP, 8-Leads, Body 9.375x6.985mm, Pitch 2.54mm)
pins: 1 ~{INC} (in) "Increment/Decrement Wiper Control", 2 U/~{D} (in) "Up/Down Control", 3 H "High-Terminal of Potentiometer", 4 GND (power) "Ground", 5 W "Wiper of Potentiometer", 6 L "Low-Terminal of Potentiometer", 7 ~{CS} (in) "Chip Select", 8 VCC (power) "3V or 5V Power Supply"

## DS1804-100+
designator U?
NV Trimmer Potentiometer with Up/Down Control Interface, Non-Volatile, Linear Taper, 100 Steps, -40 to 85 degC, 8-pin PDIP (P8+2), Pb-Free; PartNumber: DS1804-100+; DatasheetVersion: Rev. 6; PackageVersion: Rev. E, 04/2011; PackageReference: P8+2; PackageDescription: 8-Pin Plastic Dual-In-Line, Narrow (0.3in) (P8+2), Body 9.375 x 6.985 mm, Pitch 2.54 mm; Supplier 1: Digi-Key; Supplier Part Number 1: DS1804-100+-ND; Supplier 2: Farnell; Supplier Part Number 2: 1306338; Supplier 3: Newark; Supplier Part Number 3: 73K7810; Supplier 4: Newark; Supplier Part Number 4: 26R5803; Supplier 5: Mouser; Supplier Part Number 5: 700-DS1804-100; Control Interface: Up/Down; Features: EEPROM Wiper Memory; Mounting Technology: Through Hole; Code_JEDEC: MS001-XX; ComponentLink1Description: Manufacturer URL; ComponentLink1URL: http://www.maximintegrated.com/; ComponentLink2Description: Datasheet; ComponentLink2URL: http://datasheets.maximintegrated.com/en/ds/DS1804.pdf; ComponentLink3Description: Package Specification; ComponentLink3URL: http://pdfserv.maximintegrated.com/package_dwgs/21-0043.PDF
footprint MAXM-P8+2 (DIP, 8-Leads, Body 9.375x6.985mm, Pitch 2.54mm)
pins: 1 ~{INC} (in) "Increment/Decrement Wiper Control", 2 U/~{D} (in) "Up/Down Control", 3 H "High-Terminal of Potentiometer", 4 GND (power) "Ground", 5 W "Wiper of Potentiometer", 6 L "Low-Terminal of Potentiometer", 7 ~{CS} (in) "Chip Select", 8 VCC (power) "3V or 5V Power Supply"

## DS1804U-010
designator U?
NV Trimmer Potentiometer with Up/Down Control Interface, Non-Volatile, Linear Taper, 100 Steps, -40 to 85 degC, 8-pin uMAX (U8+3); PartNumber: DS1804U-010; DatasheetVersion: Rev. 6; PackageVersion: Rev. L, 08/2009; PackageReference: U8+3; PackageDescription: 8-Pin Micro-MAX, Thin Shrink Small-Outline (U8+3), Body 3 x 3 mm, Pitch 0.65 mm; Supplier 1: Digi-Key; Supplier Part Number 1: DS1804U-010-ND; Supplier 2: Mouser; Supplier Part Number 2: N/A; Control Interface: Up/Down; Features: EEPROM Wiper Memory; Mounting Technology: Surface Mount; Code_JEDEC: MO-187; ComponentLink1Description: Manufacturer URL; ComponentLink1URL: http://www.maximintegrated.com/; ComponentLink2Description: Datasheet; ComponentLink2URL: http://datasheets.maximintegrated.com/en/ds/DS1804.pdf; ComponentLink3Description: Package Specification; ComponentLink3URL: http://pdfserv.maximintegrated.com/package_dwgs/21-0036.PDF
footprint MAXM-U8+3_N (SOP, 8-Leads, Body 3x3mm, Pitch 0.65mm, IPC Medium Density)
footprint MAXM-U8+3_L (SOP, 8-Leads, Body 3x3mm, Pitch 0.65mm, IPC High Density)
footprint MAXM-U8+3_M (SOP, 8-Leads, Body 3x3mm, Pitch 0.65mm, IPC Low Density)
pins: 1 ~{INC} (in) "Increment/Decrement Wiper Control", 2 U/~{D} (in) "Up/Down Control", 3 H "High-Terminal of Potentiometer", 4 GND (power) "Ground", 5 W "Wiper of Potentiometer", 6 L "Low-Terminal of Potentiometer", 7 ~{CS} (in) "Chip Select", 8 VCC (power) "3V or 5V Power Supply"

## DS1804U-010+
designator U?
NV Trimmer Potentiometer with Up/Down Control Interface, Non-Volatile, Linear Taper, 100 Steps, -40 to 85 degC, 8-pin uMAX (U8+3), Pb-Free; PartNumber: DS1804U-010+; DatasheetVersion: Rev. 6; PackageVersion: Rev. L, 08/2009; PackageReference: U8+3; PackageDescription: 8-Pin Micro-MAX, Thin Shrink Small-Outline (U8+3), Body 3 x 3 mm, Pitch 0.65 mm; Supplier 1: Digi-Key; Supplier Part Number 1: DS1804U-010+-ND; Supplier 2: Mouser; Supplier Part Number 2: 700-DS1804U-010; Control Interface: Up/Down; Features: EEPROM Wiper Memory; Mounting Technology: Surface Mount; Code_JEDEC: MO-187; ComponentLink1Description: Manufacturer URL; ComponentLink1URL: http://www.maximintegrated.com/; ComponentLink2Description: Datasheet; ComponentLink2URL: http://datasheets.maximintegrated.com/en/ds/DS1804.pdf; ComponentLink3Description: Package Specification; ComponentLink3URL: http://pdfserv.maximintegrated.com/package_dwgs/21-0036.PDF
footprint MAXM-U8+3_N (SOP, 8-Leads, Body 3x3mm, Pitch 0.65mm, IPC Medium Density)
footprint MAXM-U8+3_L (SOP, 8-Leads, Body 3x3mm, Pitch 0.65mm, IPC High Density)
footprint MAXM-U8+3_M (SOP, 8-Leads, Body 3x3mm, Pitch 0.65mm, IPC Low Density)
pins: 1 ~{INC} (in) "Increment/Decrement Wiper Control", 2 U/~{D} (in) "Up/Down Control", 3 H "High-Terminal of Potentiometer", 4 GND (power) "Ground", 5 W "Wiper of Potentiometer", 6 L "Low-Terminal of Potentiometer", 7 ~{CS} (in) "Chip Select", 8 VCC (power) "3V or 5V Power Supply"

## DS1804U-010+T&R
designator U?
NV Trimmer Potentiometer with Up/Down Control Interface, Non-Volatile, Linear Taper, 100 Steps, -40 to 85 degC, 8-pin uMAX (U8+3), Pb-Free, Tape and Reel; PartNumber: DS1804U-010+T&R; DatasheetVersion: Rev. 6; PackageVersion: Rev. L, 08/2009; PackageReference: U8+3; PackageDescription: 8-Pin Micro-MAX, Thin Shrink Small-Outline (U8+3), Body 3 x 3 mm, Pitch 0.65 mm; Supplier 1: Digi-Key; Supplier Part Number 1: DS1804U-010+T&R-ND; Supplier 2: Mouser; Supplier Part Number 2: 700-DS1804U-010T&R; Control Interface: Up/Down; Features: EEPROM Wiper Memory; Mounting Technology: Surface Mount; Code_JEDEC: MO-187; ComponentLink1Description: Manufacturer URL; ComponentLink1URL: http://www.maximintegrated.com/; ComponentLink2Description: Datasheet; ComponentLink2URL: http://datasheets.maximintegrated.com/en/ds/DS1804.pdf; ComponentLink3Description: Package Specification; ComponentLink3URL: http://pdfserv.maximintegrated.com/package_dwgs/21-0036.PDF
footprint MAXM-U8+3_N (SOP, 8-Leads, Body 3x3mm, Pitch 0.65mm, IPC Medium Density)
footprint MAXM-U8+3_L (SOP, 8-Leads, Body 3x3mm, Pitch 0.65mm, IPC High Density)
footprint MAXM-U8+3_M (SOP, 8-Leads, Body 3x3mm, Pitch 0.65mm, IPC Low Density)
pins: 1 ~{INC} (in) "Increment/Decrement Wiper Control", 2 U/~{D} (in) "Up/Down Control", 3 H "High-Terminal of Potentiometer", 4 GND (power) "Ground", 5 W "Wiper of Potentiometer", 6 L "Low-Terminal of Potentiometer", 7 ~{CS} (in) "Chip Select", 8 VCC (power) "3V or 5V Power Supply"

## DS1804U-010/T&R
designator U?
NV Trimmer Potentiometer with Up/Down Control Interface, Non-Volatile, Linear Taper, 100 Steps, -40 to 85 degC, 8-pin uMAX (U8-3), Tape and Reel; PartNumber: DS1804U-010/T&R; DatasheetVersion: Rev. 6; PackageVersion: Rev. L, 08/2009; PackageReference: U8-3; PackageDescription: 8-Pin Micro-MAX, Thin Shrink Small-Outline (U8-3), Body 3 x 3 mm, Pitch 0.65 mm; Supplier 1: Digi-Key; Supplier Part Number 1: DS1804U-010/T&R-ND; Supplier 2: Mouser; Supplier Part Number 2: 700-DS1804U-010/TRNR; Control Interface: Up/Down; Features: EEPROM Wiper Memory; Mounting Technology: Surface Mount; Code_JEDEC: MO-187; ComponentLink1Description: Manufacturer URL; ComponentLink1URL: http://www.maximintegrated.com/; ComponentLink2Description: Datasheet; ComponentLink2URL: http://datasheets.maximintegrated.com/en/ds/DS1804.pdf; ComponentLink3Description: Package Specification; ComponentLink3URL: http://pdfserv.maximintegrated.com/package_dwgs/21-0036.PDF
footprint MAXM-U8-3_N (SOP, 8-Leads, Body 3x3mm, Pitch 0.65mm, IPC Medium Density)
footprint MAXM-U8-3_L (SOP, 8-Leads, Body 3x3mm, Pitch 0.65mm, IPC High Density)
footprint MAXM-U8-3_M (SOP, 8-Leads, Body 3x3mm, Pitch 0.65mm, IPC Low Density)
pins: 1 ~{INC} (in) "Increment/Decrement Wiper Control", 2 U/~{D} (in) "Up/Down Control", 3 H "High-Terminal of Potentiometer", 4 GND (power) "Ground", 5 W "Wiper of Potentiometer", 6 L "Low-Terminal of Potentiometer", 7 ~{CS} (in) "Chip Select", 8 VCC (power) "3V or 5V Power Supply"

## DS1804U-050
designator U?
NV Trimmer Potentiometer with Up/Down Control Interface, Non-Volatile, Linear Taper, 100 Steps, -40 to 85 degC, 8-pin uMAX (U8-3); PartNumber: DS1804U-050; DatasheetVersion: Rev. 6; PackageVersion: Rev. L, 08/2009; PackageReference: U8-3; PackageDescription: 8-Pin Micro-MAX, Thin Shrink Small-Outline (U8-3), Body 3 x 3 mm, Pitch 0.65 mm; Supplier 1: Digi-Key; Supplier Part Number 1: DS1804U-050-ND; Supplier 2: Mouser; Supplier Part Number 2: N/A; Control Interface: Up/Down; Features: EEPROM Wiper Memory; Mounting Technology: Surface Mount; Code_JEDEC: MO-187; ComponentLink1Description: Manufacturer URL; ComponentLink1URL: http://www.maximintegrated.com/; ComponentLink2Description: Datasheet; ComponentLink2URL: http://datasheets.maximintegrated.com/en/ds/DS1804.pdf; ComponentLink3Description: Package Specification; ComponentLink3URL: http://pdfserv.maximintegrated.com/package_dwgs/21-0036.PDF
footprint MAXM-U8-3_N (SOP, 8-Leads, Body 3x3mm, Pitch 0.65mm, IPC Medium Density)
footprint MAXM-U8-3_L (SOP, 8-Leads, Body 3x3mm, Pitch 0.65mm, IPC High Density)
footprint MAXM-U8-3_M (SOP, 8-Leads, Body 3x3mm, Pitch 0.65mm, IPC Low Density)
pins: 1 ~{INC} (in) "Increment/Decrement Wiper Control", 2 U/~{D} (in) "Up/Down Control", 3 H "High-Terminal of Potentiometer", 4 GND (power) "Ground", 5 W "Wiper of Potentiometer", 6 L "Low-Terminal of Potentiometer", 7 ~{CS} (in) "Chip Select", 8 VCC (power) "3V or 5V Power Supply"